# EAGLE library part ATTINY44 (library Attiny)
ATtiny24A/44A/84A are low-power CMOS 8-bit microcontrollers based on the AVR enhanced RISC architecture. By executing powerful in structions in a single clock cycle, the ATtiny24A/44A/84A achieves throughputs approaching 1 MIPS per MHz allowing the system designer to optimize power consum ption versus processing speed.
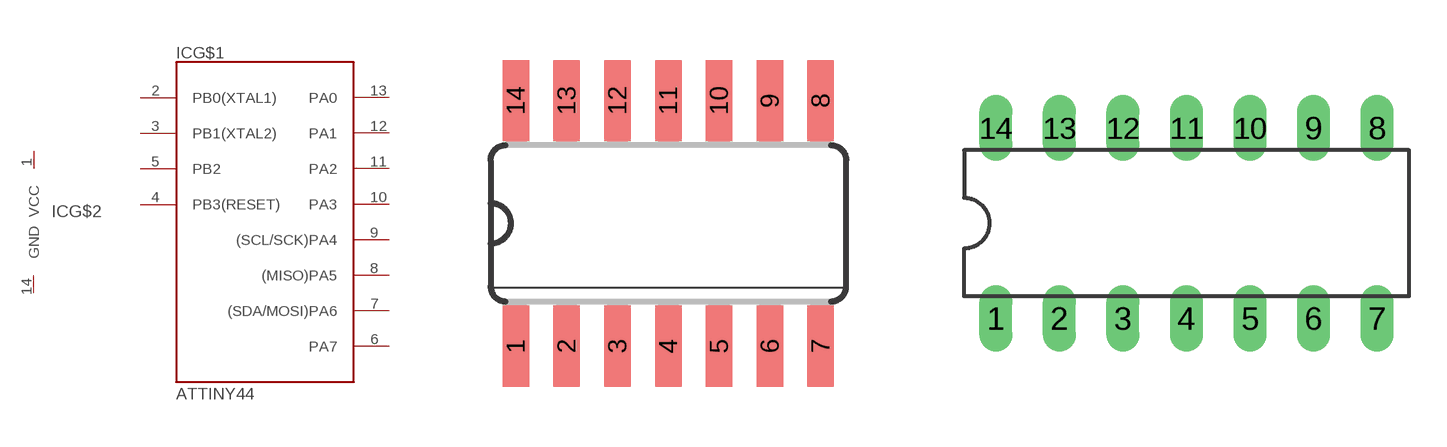
[diagram p0: symbol with the pads of SO14; footprints SO14, DIL14]

Designator prefix IC; gates G$1=ATTINY44 G$2=VCCGND

## ATTINY44SSU  [SO14]
1  G$2:VCC  pwr
2  G$1:PB0(XTAL1)
3  G$1:PB1(XTAL2)
4  G$1:PB3(RESET)
5  G$1:PB2
6  G$1:PA7
7  G$1:(SDA/MOSI)PA6
8  G$1:(MISO)PA5
9  G$1:(SCL/SCK)PA4
10  G$1:PA3
11  G$1:PA2
12  G$1:PA1
13  G$1:PA0
14  G$2:GND  pwr

## ATTINY44PU  [DIL14]
Pads as for SO14

## Footprint SO14 (pad centres in mm)
Small Outline package 150 mil
smd 0.66 x 2.032: 1 -3.81,-3.073; 2 -2.54,-3.073; 3 -1.27,-3.073; 4 0,-3.073; 5 1.27,-3.073; 6 2.54,-3.073; 7 3.81,-3.073; 8 3.81,3.073; 9 2.54,3.073; 10 1.27,3.073; 11 0,3.073; 12 -1.27,3.073; 13 -2.54,3.073; 14 -3.81,3.073

## Footprint DIL14 (pad centres in mm)
Dual In Line Package
drill 0.813 long: 1 -7.62,-3.81; 2 -5.08,-3.81; 3 -2.54,-3.81; 4 0,-3.81; 5 2.54,-3.81; 6 5.08,-3.81; 7 7.62,-3.81; 8 7.62,3.81; 9 5.08,3.81; 10 2.54,3.81; 11 0,3.81; 12 -2.54,3.81; 13 -5.08,3.81; 14 -7.62,3.81